# EAGLE library part Z16F2810AG (library Zilog-ZNEO-v1_0)
ZNEO Z16F Series in LQFP-64 package - no external address bus! Z16F2810AG (128K Flash) ZiLOG, Inc. http://www.zilog.com/
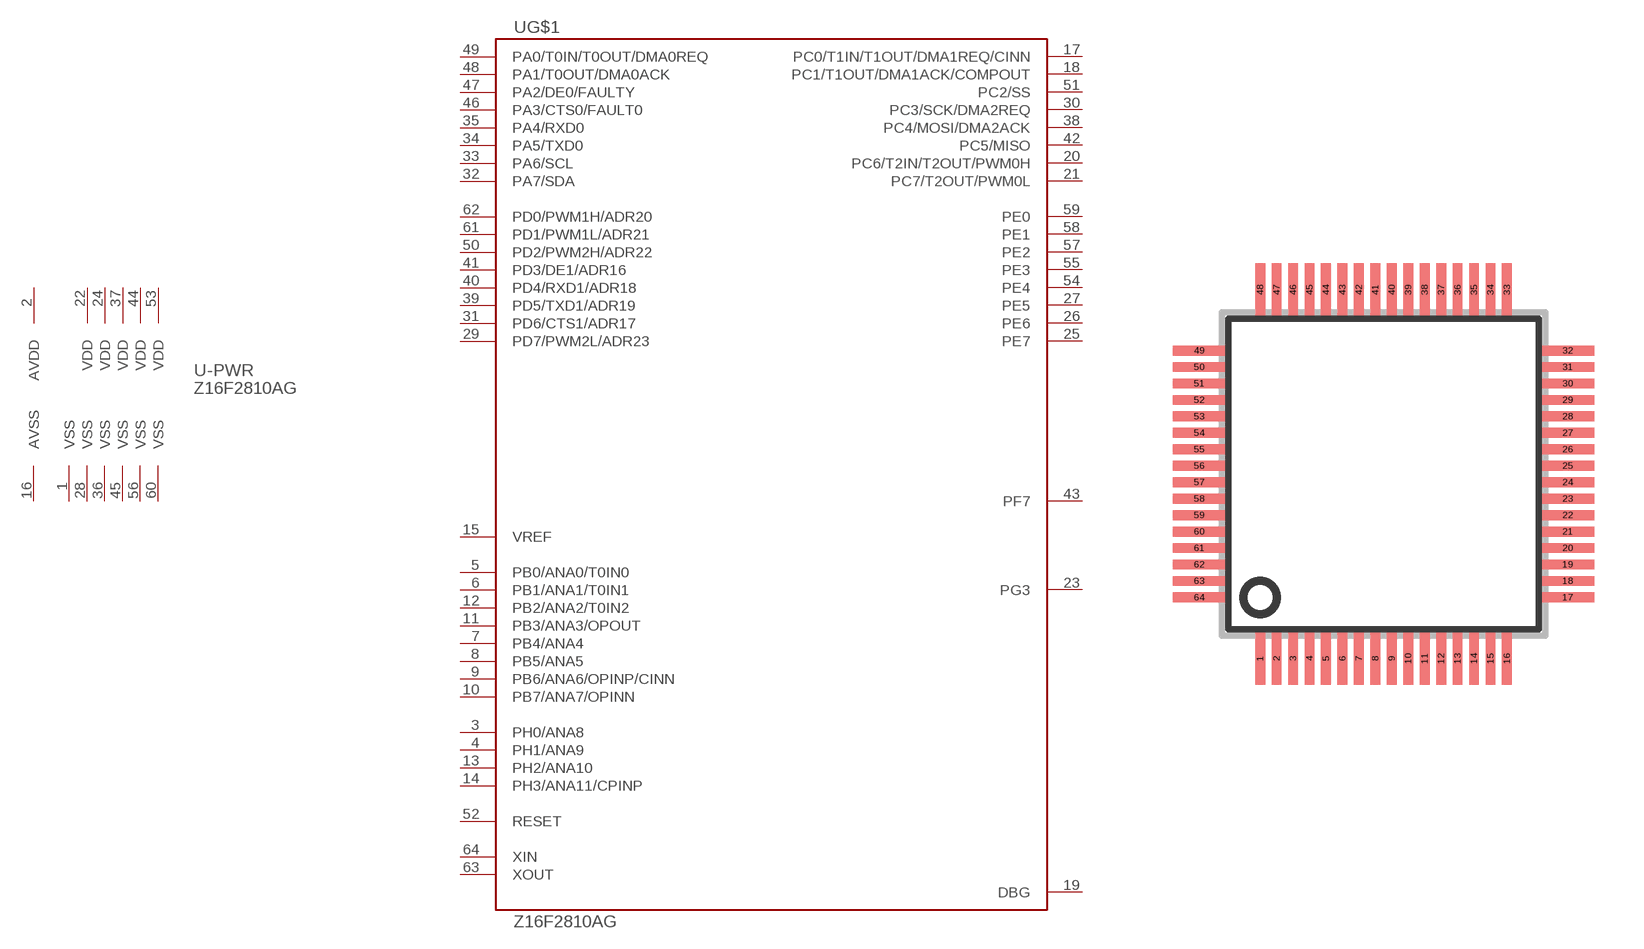
[diagram p1: symbol with the pads of SQFP-S-10X10-64; footprint SQFP-S-10X10-64]

Designator prefix -; gates G$1=Z16F2810AG -PWR=PWR_64-PIN

## Z16F2810AG  [SQFP-S-10X10-64]
1  -PWR:VSS  pwr
2  -PWR:AVDD  pwr
3  G$1:PH0/ANA8
4  G$1:PH1/ANA9
5  G$1:PB0/ANA0/T0IN0
6  G$1:PB1/ANA1/T0IN1
7  G$1:PB4/ANA4
8  G$1:PB5/ANA5
9  G$1:PB6/ANA6/OPINP/CINN
10  G$1:PB7/ANA7/OPINN
11  G$1:PB3/ANA3/OPOUT
12  G$1:PB2/ANA2/T0IN2
13  G$1:PH2/ANA10
14  G$1:PH3/ANA11/CPINP
15  G$1:VREF
16  -PWR:AVSS  pwr
17  G$1:PC0/T1IN/T1OUT/DMA1REQ/CINN
18  G$1:PC1/T1OUT/DMA1ACK/COMPOUT
19  G$1:DBG
20  G$1:PC6/T2IN/T2OUT/PWM0H
21  G$1:PC7/T2OUT/PWM0L
22  -PWR:VDD  pwr
23  G$1:PG3
24  -PWR:VDD  pwr
25  G$1:PE7
26  G$1:PE6
27  G$1:PE5
28  -PWR:VSS  pwr
29  G$1:PD7/PWM2L/ADR23
30  G$1:PC3/SCK/DMA2REQ
31  G$1:PD6/CTS1/ADR17
32  G$1:PA7/SDA
33  G$1:PA6/SCL
34  G$1:PA5/TXD0
35  G$1:PA4/RXD0
36  -PWR:VSS  pwr
37  -PWR:VDD  pwr
38  G$1:PC4/MOSI/DMA2ACK
39  G$1:PD5/TXD1/ADR19
40  G$1:PD4/RXD1/ADR18
41  G$1:PD3/DE1/ADR16
42  G$1:PC5/MISO
43  G$1:PF7
44  -PWR:VDD  pwr
45  -PWR:VSS  pwr
46  G$1:PA3/CTS0/FAULT0
47  G$1:PA2/DE0/FAULTY
48  G$1:PA1/T0OUT/DMA0ACK
49  G$1:PA0/T0IN/T0OUT/DMA0REQ
50  G$1:PD2/PWM2H/ADR22
51  G$1:PC2/SS
52  G$1:RESET
53  -PWR:VDD  pwr
54  G$1:PE4
55  G$1:PE3
56  -PWR:VSS  pwr
57  G$1:PE2
58  G$1:PE1
59  G$1:PE0
60  -PWR:VSS  pwr
61  G$1:PD1/PWM1L/ADR21
62  G$1:PD0/PWM1H/ADR20
63  G$1:XOUT
64  G$1:XIN

## Footprint SQFP-S-10X10-64 (pad centres in mm)
LQFP64 shrink quad flat pack, square
smd 0.3 x 1.6: 1 -3.75,-5.6; 2 -3.25,-5.6; 3 -2.75,-5.6; 4 -2.25,-5.6; 5 -1.75,-5.6; 6 -1.25,-5.6; 7 -0.75,-5.6; 8 -0.25,-5.6; 9 0.25,-5.6; 10 0.75,-5.6; 11 1.25,-5.6; 12 1.75,-5.6; 13 2.25,-5.6; 14 2.75,-5.6; 15 3.25,-5.6; 16 3.75,-5.6; 33 3.75,5.6; 34 3.25,5.6; 35 2.75,5.6; 36 2.25,5.6; 37 1.75,5.6; 38 1.25,5.6; 39 0.75,5.6; 40 0.25,5.6; 41 -0.25,5.6; 42 -0.75,5.6; 43 -1.25,5.6; 44 -1.75,5.6; 45 -2.25,5.6; 46 -2.75,5.6; 47 -3.25,5.6; 48 -3.75,5.6
smd 1.6 x 0.3: 17 5.6,-3.75; 18 5.6,-3.25; 19 5.6,-2.75; 20 5.6,-2.25; 21 5.6,-1.75; 22 5.6,-1.25; 23 5.6,-0.75; 24 5.6,-0.25; 25 5.6,0.25; 26 5.6,0.75; 27 5.6,1.25; 28 5.6,1.75; 29 5.6,2.25; 30 5.6,2.75; 31 5.6,3.25; 32 5.6,3.75; 49 -5.6,3.75; 50 -5.6,3.25; 51 -5.6,2.75; 52 -5.6,2.25; 53 -5.6,1.75; 54 -5.6,1.25; 55 -5.6,0.75; 56 -5.6,0.25; 57 -5.6,-0.25; 58 -5.6,-0.75; 59 -5.6,-1.25; 60 -5.6,-1.75; 61 -5.6,-2.25; 62 -5.6,-2.75; 63 -5.6,-3.25; 64 -5.6,-3.75